# EAGLE library part DMG264H0 (library Synapseware)
Silicon NPN epitaxial planar type (Tr1) Silicon PNP epitaxial planar type (Tr2) Resistance value Tr1 R1 47 kΩ R2 47 KΩ Tr2 R1 4.7 kΩ R2 4.7 KΩ http://www.mouser.com/ds/2/315/DMG264H0_AED-53392.pdf
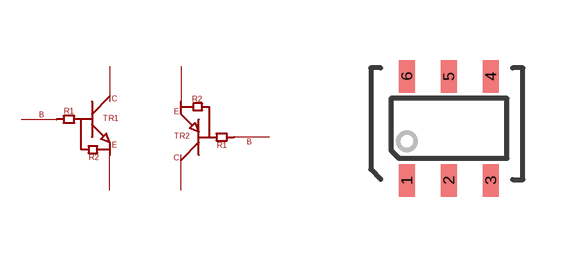
[diagram p12: symbol with the pads of MINI6-G4-B; footprint MINI6-G4-B]

Designator prefix -

## DMG264H0  [MINI6-G4-B]
1  E1
2  B1
3  C2
4  E2
5  B2
6  C1

## Footprint MINI6-G4-B (pad centres in mm)
MINI6-G4-B footprint
smd 0.406 x 0.813: 1 0.4,-2.05; 2 1.45,-2.05; 3 2.5,-2.05; 4 2.5,0.55; 5 1.45,0.55; 6 0.4,0.55